# Altium schematic symbol library DT13-08PA.SchLib: 1 symbol
Pins are listed as number, name and electrical type; pins without a type are passive.

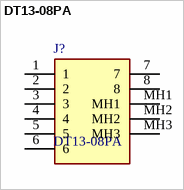
[diagram p0: symbol DT13-08PA]

## DT13-08PA
designator J?
Automotive Connectors 8P DT RECP, KEY A 90 DEG. HEADER; Manufacturer_Name: TE Connectivity; Geometry.Height: 35.26mm; Manufacturer_Part_Number: DT13-08PA; Mouser Part Number: 571-DT13-08PA; Mouser Price/Stock: https://www.mouser.co.uk/ProductDetail/TE-Connectivity-DEUTSCH/DT13-08PA?qs=vkMqrgFpRajDHhjEbCDGkQ%3D%3D; Arrow Part Number: DT13-08PA; Arrow Price/Stock: https://www.arrow.com/en/products/dt13-08pa/te-connectivity; Datasheet Link: https://www.te.com/commerce/DocumentDelivery/DDEController?Action=showdoc&DocId=Customer+Drawing%7FDT13-08PX%7FC%7Fpdf%7FEnglish%7FENG_CD_DT13-08PX_C.pdf%7FDT13-08PA
footprint DT1308PA
pins: 1, 2, 3, 4, 5, 6, 7, 8, MH1, MH2, MH3